# Altium footprint library Resistor_SMD.PcbLib: 62 footprints (part 4 of 4)
Each footprint in its own frame and in the unit in brackets; x right, y up, seen from the top. Pads: shape width x height; smd on the part's side, far side on the other; paste and mask are expansions set on the pad; w line width, h text height; cw(c..) or ccw(c..) is an arc to the next point about the centre after c.
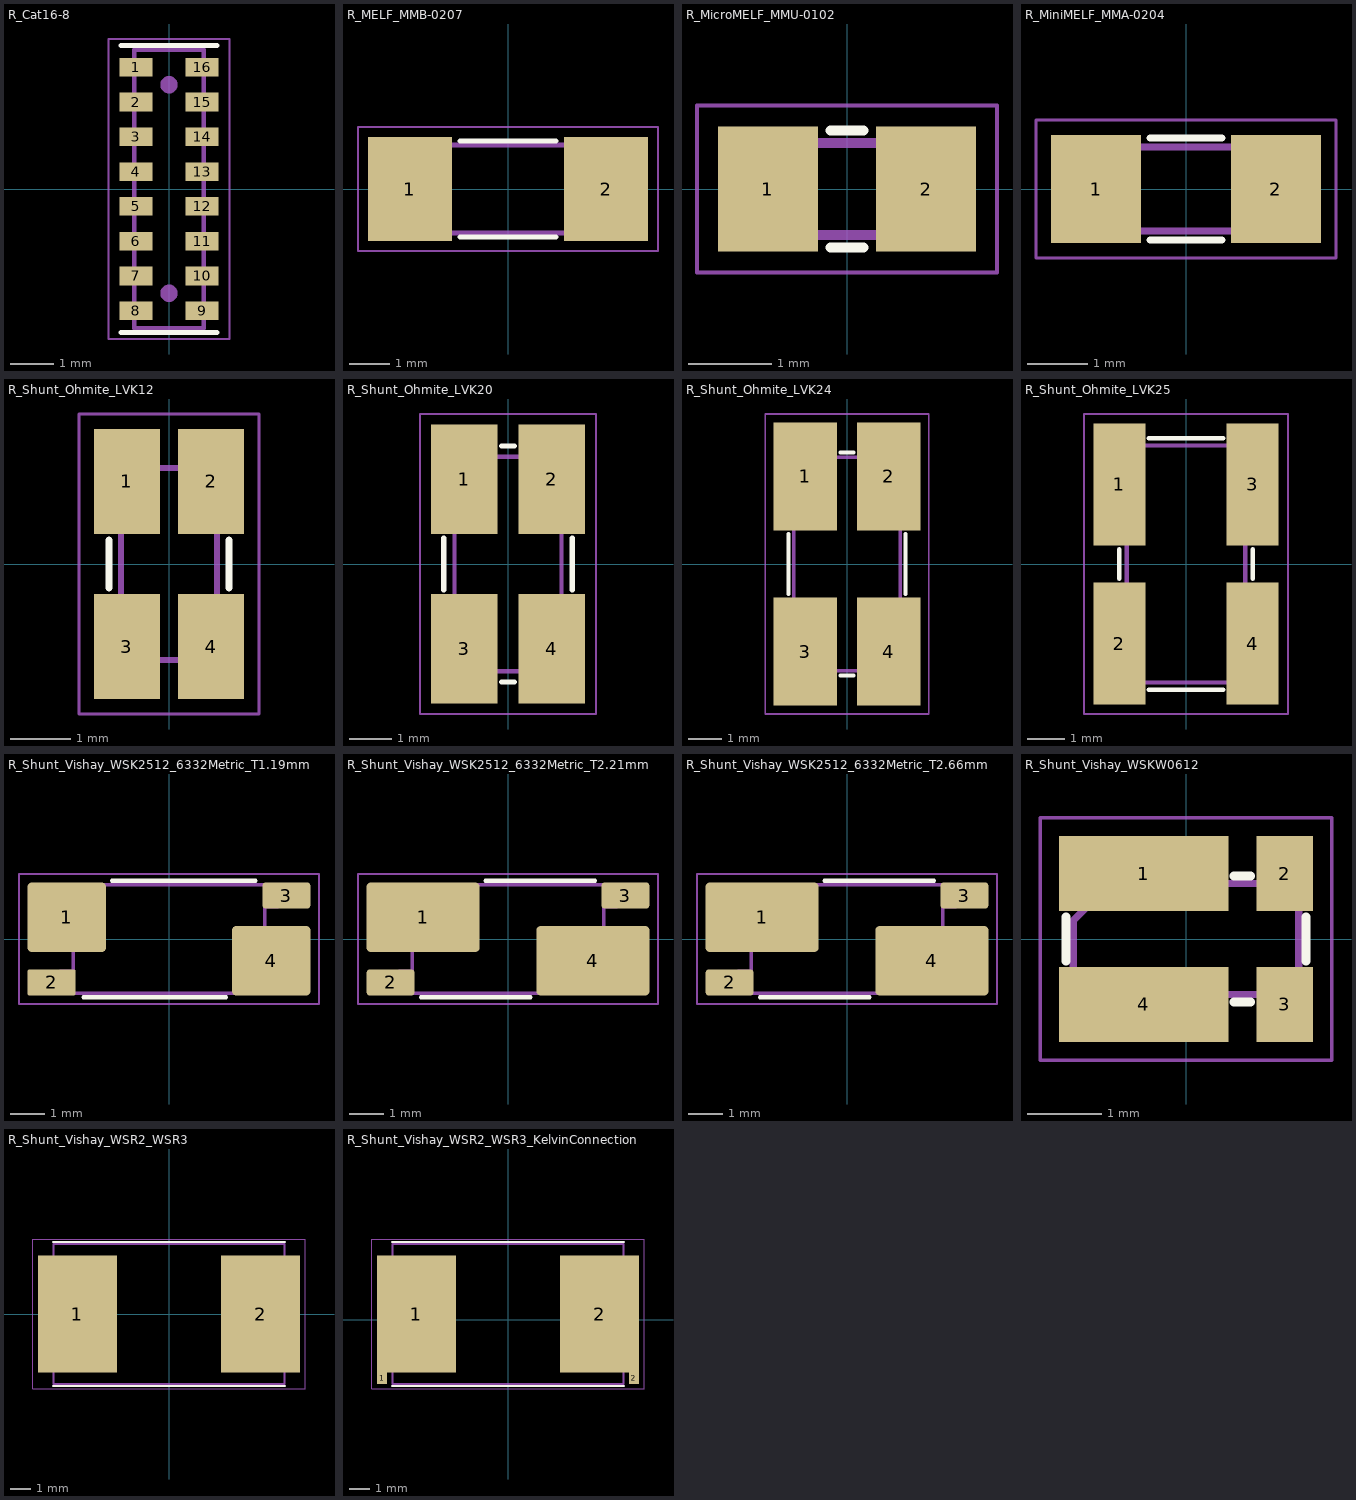
[diagram p3: the footprints below, top view; thin cyan lines are the x and y axes]

## R_Cat16-8 [mm]
pads (16):
  rect 0.76x0.43 smd: 1(-0.76,2.8) 2(-0.76,2) 3(-0.76,1.2) 4(-0.76,0.4) 5(-0.76,-0.4) 6(-0.76,-1.2) 7(-0.76,-2) 8(-0.76,-2.8) 9(0.76,-2.8) 10(0.76,-2) 11(0.76,-1.2) 12(0.76,-0.4) 13(0.76,0.4) 14(0.76,1.2) 15(0.76,2) 16(0.76,2.8)
F.SilkS:
  lines w0.12: -1.1,-3.3 1.1,-3.3 ; -1.1,3.3 1.1,3.3
F.CrtYd:
  lines w0.05: -1.39,-3.45 -1.39,3.45 1.39,3.45 1.39,-3.45 -1.39,-3.45
F.Fab:
  lines w0.1: -0.8,-3.2 -0.8,3.2 0.8,3.2 0.8,-3.2 -0.8,-3.2
  text "'.Designator'" at 0.84,-4.047 h1
F.Adhes:
  circle w0.2: c0,-2.4 r0.1
  circle w0.2: c0,2.4 r0.1
3D body "R_Cat16-8.step": height 0.5, standoff 0, extent -0.8,-3.2 0.8,3.2

## R_MELF_MMB-0207 [mm]
pads (2):
  rect 2.1x2.6 smd: 1(-2.45,0) 2(2.45,0)
F.SilkS:
  lines w0.12: -1.2,-1.2 1.2,-1.2 ; -1.2,1.2 1.2,1.2
F.CrtYd:
  lines w0.05: -3.75,-1.55 3.75,-1.55 3.75,1.55 -3.75,1.55 -3.75,-1.55
F.Fab:
  lines w0.12: -1.7,-1.1 -1.7,1.1 ; 1.7,-1.1 1.7,1.1 ; -2.9,-1.1 -2.9,1.1 2.9,1.1 2.9,-1.1 -2.9,-1.1
  text "'.Designator'" at -4.047,-0.84 h1
3D body "R_MELF_MMB-0207.step": height 2.2, standoff 0, extent -2.9,-1.092 2.9,1.092

## R_MicroMELF_MMU-0102 [mm]
pads (2):
  rect 1.2x1.5 smd: 1(-0.95,0) 2(0.95,0)
F.SilkS:
  lines w0.12: -0.2,-0.7 0.2,-0.7 ; -0.2,0.7 0.2,0.7
F.CrtYd:
  lines w0.05: -1.8,-1 -1.8,1 1.8,1 1.8,-1 -1.8,-1
F.Fab:
  lines w0.12: -0.6,-0.55 -0.6,0.55 ; 0.6,-0.55 0.6,0.55 ; -1.1,-0.55 1.1,-0.55 1.1,0.55 -1.1,0.55 -1.1,-0.55
  text "'.Designator'" at -4.047,0.61 h1
3D body "R_MicroMELF_MMU-0102.step": height 1.1, standoff 0, extent -1.1,-0.546 1.1,0.546

## R_MiniMELF_MMA-0204 [mm]
pads (2):
  rect 1.5x1.8 smd: 1(-1.5,0) 2(1.5,0)
F.SilkS:
  lines w0.12: -0.6,-0.85 0.6,-0.85 ; -0.6,0.85 0.6,0.85
F.CrtYd:
  lines w0.05: -2.5,-1.15 -2.5,1.15 2.5,1.15 2.5,-1.15 -2.5,-1.15
F.Fab:
  lines w0.12: -0.9,-0.7 -0.9,0.7 ; 0.9,-0.7 0.9,0.7 ; -1.8,-0.7 1.8,-0.7 1.8,0.7 -1.8,0.7 -1.8,-0.7
  text "'.Designator'" at -2.458,-0.534 h0.6
3D body "R_Shunt_Ohmite_LVK12.step": height 0.6, standoff 0, extent -1.6,-0.8 1.6,0.8

## R_Shunt_Ohmite_LVK12 [mm]
pads (4):
  rect 1.1x1.75 smd: 1(-0.7,1.375) 2(0.7,1.375) 3(-0.7,-1.375) 4(0.7,-1.375)
F.SilkS:
  lines w0.12: -1,-0.4 -1,0.4 ; 1,-0.4 1,0.4
F.CrtYd:
  lines w0.05: -1.5,-2.5 1.5,-2.5 1.5,2.5 -1.5,2.5 -1.5,-2.5
F.Fab:
  lines w0.1: -0.8,-1.6 0.8,-1.6 0.8,1.6 -0.8,1.6 -0.8,-1.6
  text "'.Designator'" at 0.614,-2.438 h0.6
3D body "R_Shunt_Ohmite_LVK12.step": height 0.6, standoff 0, extent -0.8,-1.6 0.8,1.6

## R_Shunt_Ohmite_LVK20 [mm]
pads (4):
  rect 1.55x2.55 smd: 1(-1.025,1.975) 2(1.025,1.975) 3(-1.025,-1.975) 4(1.025,-1.975)
F.SilkS:
  lines w0.12: -1.5,-0.6 -1.5,0.6 ; -0.15,-2.75 0.15,-2.75 ; -0.15,2.75 0.15,2.75 ; 1.5,-0.6 1.5,0.6
F.CrtYd:
  lines w0.05: -2.05,-3.5 2.05,-3.5 2.05,3.5 -2.05,3.5 -2.05,-3.5
F.Fab:
  lines w0.1: -1.25,-2.5 -1.25,2.5 1.25,2.5 1.25,-2.5 0,-2.5 -1.25,-2.5
  text "'.Designator'" at 0.89,-4.097 h1
3D body "R_Shunt_Ohmite_LVK20.step": height 0.6, standoff 0, extent -1.25,-2.5 1.25,2.5

## R_Shunt_Ohmite_LVK24 [mm]
pads (4):
  rect 1.9x3.25 smd: 1(-1.25,2.625) 2(1.25,2.625) 3(-1.25,-2.625) 4(1.25,-2.625)
F.SilkS:
  lines w0.12: -1.75,-0.9 -1.75,0.9 ; -0.2,-3.35 0.2,-3.35 ; -0.2,3.35 0.2,3.35 ; 1.75,-0.9 1.75,0.9
F.CrtYd:
  lines w0.05: -2.45,-4.5 -2.45,4.5 2.45,4.5 2.45,-4.5 -2.45,-4.5
F.Fab:
  lines w0.1: -1.6,-3.2 0,-3.2 1.6,-3.2 1.6,3.2 -1.6,3.2 -1.6,-3.2
  text "'.Designator'" at 1.185,-5.995 h1.5
3D body "R_Shunt_Ohmite_LVK24.step": height 0.6, standoff 0, extent -1.6,-3.2 1.6,3.2

## R_Shunt_Ohmite_LVK25 [mm]
pads (4):
  rect 1.4x3.3 smd: 1(-1.8,2.15) 2(-1.8,-2.15) 3(1.8,2.15) 4(1.8,-2.15)
F.SilkS:
  lines w0.12: -1.8,-0.4 -1.8,0.4 ; -1,-3.4 1,-3.4 ; -1,3.4 1,3.4 ; 1.8,-0.4 1.8,0.4
F.CrtYd:
  lines w0.05: -2.75,-4.05 2.75,-4.05 2.75,4.05 -2.75,4.05 -2.75,-4.05
F.Fab:
  lines w0.12: -1.6,-3.2 -1.6,3.2 1.6,3.2 1.6,-3.2 0,-3.2 -1.6,-3.2
  text "'.Designator'" at 1.235,-6.045 h1.5
3D body "R_Shunt_Ohmite_LVK25.step": height 0.6, standoff 0, extent -1.6,-3.2 1.6,3.2

## R_Shunt_Vishay_WSK2512_6332Metric_T1.19mm [mm]
pads (4):
  rrect12% 2.29x2.03 smd: 1(-2.985,0.635) 4(2.985,-0.635)
  rrect12% 1.4x0.76 smd: 2(-3.43,-1.27)
  rrect25% 1.4x0.76 smd: 3(3.43,1.27)
F.SilkS:
  lines w0.12: -2.5,-1.7 1.67,-1.7 ; -1.67,1.7 2.53,1.7
F.CrtYd:
  lines w0.05: -4.38,-1.9 4.38,-1.9 4.38,1.9 -4.38,1.9 -4.38,-1.9
F.Fab:
  lines w0.1: 3.17,0.32 2.79,0.32 2.79,0.94 3.17,0.94 ; 3.175,0.32 3.175,-1.59 -3.175,-1.59 -3.175,-0.94 -2.795,-0.94 -2.795,-0.32 -3.175,-0.32 -3.175,1.59 3.175,1.59 3.175,0.94
  text "'.Designator'" at -4.047,-0.84 h1

## R_Shunt_Vishay_WSK2512_6332Metric_T2.21mm [mm]
pads (4):
  rrect12% 3.3x2.03 smd: 1(-2.48,0.635) 4(2.48,-0.635)
  rrect25% 1.4x0.76 smd: 2(-3.43,-1.27) 3(3.43,1.27)
F.SilkS:
  lines w0.12: -2.54,-1.7 0.66,-1.7 ; -0.66,1.7 2.54,1.7
F.CrtYd:
  lines w0.05: -4.38,-1.9 4.38,-1.9 4.38,1.9 -4.38,1.9 -4.38,-1.9
F.Fab:
  lines w0.1: 3.17,0.32 2.79,0.32 2.79,0.94 3.17,0.94 ; 3.175,0.32 3.175,-1.59 -3.175,-1.59 -3.175,-0.94 -2.795,-0.94 -2.795,-0.32 -3.175,-0.32 -3.175,1.59 3.175,1.59 3.175,0.94
  text "'.Designator'" at -4.047,-0.84 h1

## R_Shunt_Vishay_WSK2512_6332Metric_T2.66mm [mm]
pads (4):
  rrect12% 3.3x2.03 smd: 1(-2.48,0.635) 4(2.48,-0.635)
  rrect25% 1.4x0.76 smd: 2(-3.43,-1.27) 3(3.43,1.27)
F.SilkS:
  lines w0.12: -2.54,-1.7 0.66,-1.7 ; -0.66,1.7 2.54,1.7
F.CrtYd:
  lines w0.05: -4.38,-1.9 4.38,-1.9 4.38,1.9 -4.38,1.9 -4.38,-1.9
F.Fab:
  lines w0.1: 3.17,0.32 2.79,0.32 2.79,0.94 3.17,0.94 ; 3.175,0.32 3.175,-1.59 -3.175,-1.59 -3.175,-0.94 -2.795,-0.94 -2.795,-0.32 -3.175,-0.32 -3.175,1.59 3.175,1.59 3.175,0.94
  text "'.Designator'" at -4.047,-0.84 h1

## R_Shunt_Vishay_WSKW0612 [mm]
pads (4):
  rect 2.287x1.01 smd: 1(-0.572,0.885) 4(-0.572,-0.885)
  rect 0.762x1.01 smd: 2(1.334,0.885) 3(1.334,-0.885)
F.SilkS:
  lines w0.12: -1.625,-0.3 -1.625,0.3 ; 0.65,-0.85 0.875,-0.85 ; 0.65,0.85 0.875,0.85 ; 1.625,-0.3 1.625,0.3
F.CrtYd:
  lines w0.05: -1.97,-1.64 1.97,-1.64 1.97,1.64 -1.97,1.64 -1.97,-1.64
F.Fab:
  lines w0.1: -1.525,-0.75 -1.525,0.25 -1.025,0.75 1.525,0.75 1.525,-0.75 -1.525,-0.75
  text "'.Designator'" at -2.048,-0.445 h0.5
3D body "R_Shunt_Vishay_WSKW0612.step": height 0.46, standoff 0, extent -1.525,-0.75 1.525,0.75

## R_Shunt_Vishay_WSR2_WSR3 [mm]
pads (2):
  rect 3.94x5.84 smd: 1(-4.575,0) 2(4.575,0)
F.SilkS:
  lines w0.12: -5.78,-3.6 5.78,-3.6 ; -5.78,3.6 5.78,3.6
F.CrtYd:
  lines w0.05: -6.8,-3.74 6.8,-3.74 6.8,3.74 -6.8,3.74 -6.8,-3.74
F.Fab:
  lines w0.1: -5.78,-3.49 -5.78,3.49 5.78,3.49 5.78,-3.49 -5.78,-3.49
  text "'.Designator'" at -4.047,-0.84 h1

## R_Shunt_Vishay_WSR2_WSR3_KelvinConnection [mm]
pads (4):
  rect 0.51x0.6 smd: 1(-6.29,-2.91) 2(6.29,-2.91)
  rect 3.94x5.84 smd: 1(-4.575,0.29) 2(4.575,0.29)
F.SilkS:
  lines w0.12: -5.78,-3.31 5.78,-3.31 ; -5.78,3.89 5.78,3.89
F.CrtYd:
  lines w0.05: -6.8,-3.45 -6.8,4.03 6.8,4.03 6.8,-3.45 -6.8,-3.45
F.Fab:
  lines w0.1: -5.78,-3.2 -5.78,3.78 5.78,3.78 5.78,-3.2 -5.78,-3.2
  text "'.Designator'" at -4.047,-0.84 h1